# Altium footprint library 151031YS06000.PcbLib: 1 footprints
Each footprint in its own frame and in the unit in brackets; x right, y up, seen from the top. Pads: shape width x height; smd on the part's side, far side on the other; paste and mask are expansions set on the pad; w line width, h text height; cw(c..) or ccw(c..) is an arc to the next point about the centre after c.
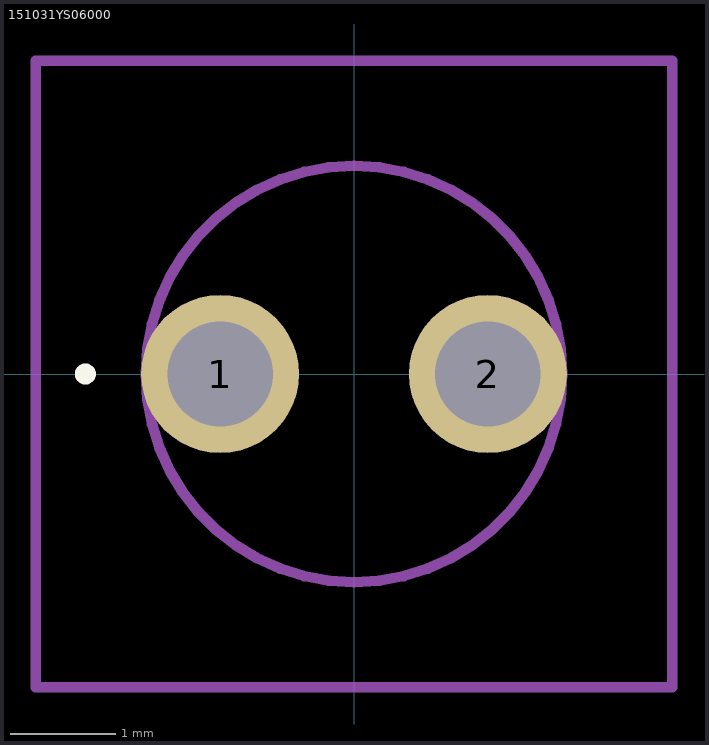
[diagram p0: the footprint, top view; thin cyan lines are the x and y axes]

## 151031YS06000 [mm]
pads (2):
  round 1.5 hole 1: 1(-1.27,0) 2(1.27,0)
Top Overlay:
  lines w0.1: -2.6,0 -2.6,0 ; -2.6,0 ccw(c-2.55,0) -2.5,0 ; -2.6,0 cw(c-2.55,0) -2.5,0 ; -2.5,0 -2.5,0
Mechanical 15:
  lines w0.1: 0,-1.975 cw(c0,0) 0,1.975 ; 0,-1.975 0,-1.975 ; 0,-1.975 ccw(c0,0) 0,1.975 ; 0,1.975 0,1.975
Mechanical 20:
  lines w0.1: -3.02,-2.975 3.02,-2.975 3.02,2.975 -3.02,2.975 -3.02,-2.975